# Altium footprint library mr30pw-m.PcbLib: 1 footprints
Each footprint in its own frame and in the unit in brackets; x right, y up, seen from the top. Pads: shape width x height; smd on the part's side, far side on the other; paste and mask are expansions set on the pad; w line width, h text height; cw(c..) or ccw(c..) is an arc to the next point about the centre after c.
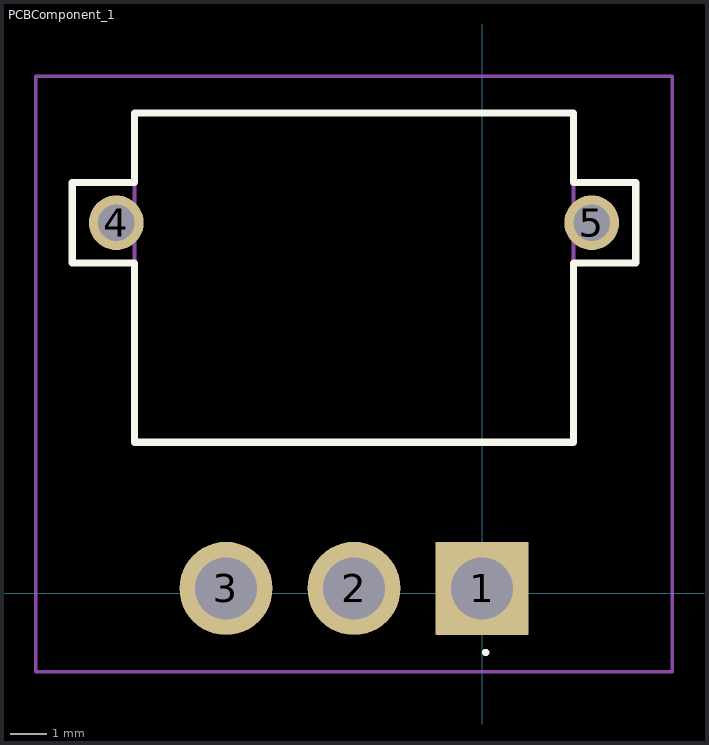
[diagram p0: the footprint, top view; thin cyan lines are the x and y axes]

## PCBComponent_1 [mm]
pads (5):
  rect 2.55x2.55 hole 1.7: 1(0,0.127)
  round 2.55 hole 1.7: 2(-3.5,0.127) 3(-7,0.127)
  round 1.5 hole 1: 4(-10,10.127) 5(3,10.127)
Top Overlay:
  lines w0.1: 0.1,-1.673 ccw(c0.1,-1.623) 0.1,-1.573 ccw(c0.1,-1.623) 0.1,-1.673
  lines w0.2: -11.2,9.027 -9.5,9.027 -9.5,4.127 -3.5,4.127 2.5,4.127 2.5,9.027 4.2,9.027 4.2,11.227 2.5,11.227 2.5,13.127 -9.5,13.127 -9.5,11.227 -11.2,11.227 -11.2,9.027
Mechanical 13:
  lines w0.1: -9.5,9.027 -11.2,9.027 -11.2,11.227 -9.5,11.227 ; 2.5,9.027 4.2,9.027 4.2,11.227 2.5,11.227 ; -9.5,4.127 -9.5,13.127 2.5,13.127 2.5,4.127 -9.5,4.127
Mechanical 15:
  lines w0.1: -12.2,-2.148 -12.2,14.127 5.2,14.127 5.2,-2.148 -12.2,-2.148